# Altium footprint library PCB - CONNECTOR - JST - JST XH S6B-XH-SM4-TB.PCBLIB: 1 footprints
Each footprint in its own frame and in the unit in brackets; x right, y up, seen from the top. Pads: shape width x height; smd on the part's side, far side on the other; paste and mask are expansions set on the pad; w line width, h text height; cw(c..) or ccw(c..) is an arc to the next point about the centre after c.
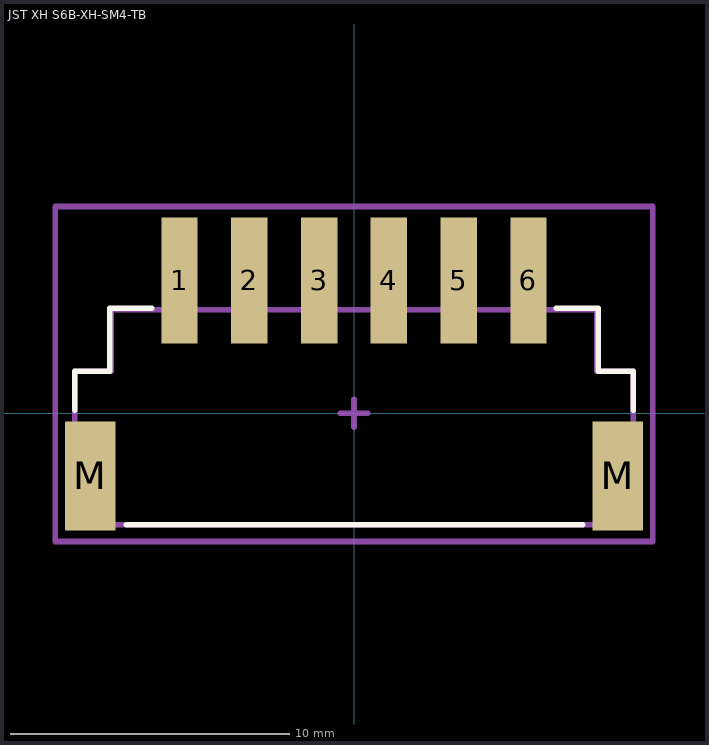
[diagram p0: the footprint, top view; thin cyan lines are the x and y axes]

## JST XH S6B-XH-SM4-TB [mm] "CONN HEADER SMD R/A 6POS 2.5MM"
height 6
pads (8):
  rect 1.3x4.5 smd: 1(-6.25,4.75) 2(-3.75,4.75) 3(-1.25,4.75) 4(1.25,4.75) 5(3.75,4.75) 6(6.25,4.75)
  rect 1.8x3.9 smd: M(-9.45,-2.25) M(9.45,-2.25)
Top Overlay:
  lines w0.2: -10,0.1 -10,1.5 -8.75,1.5 -8.75,3.75 -7.25,3.75 ; -8.15,-4 8.2,-4 ; 7.25,3.75 8.75,3.75 8.75,1.5 10,1.5 10,0.1
Mechanical 13:
  lines w0.2: -10,-4 -10,1.5 -8.7,1.5 -8.7,3.7 8.7,3.7 8.7,1.5 10,1.5 10,-4 -10,-4
Mechanical 15:
  lines w0.2: -0.5,0 0.5,0 ; 0,-0.5 0,0.5 ; -10.7,-4.6 10.7,-4.6 10.7,7.4 -10.7,7.4 -10.7,-4.6
3D body "JST - S6B-XH-SM4-TB.step": height 6, standoff 0, extent -9.975,-4 9.975,6